# Altium footprint library PCB_Lib.PcbLib: 301 footprints (part 16 of 19)
Each footprint in its own frame and in the unit in brackets; x right, y up, seen from the top. Pads: shape width x height; smd on the part's side, far side on the other; paste and mask are expansions set on the pad; w line width, h text height; cw(c..) or ccw(c..) is an arc to the next point about the centre after c.
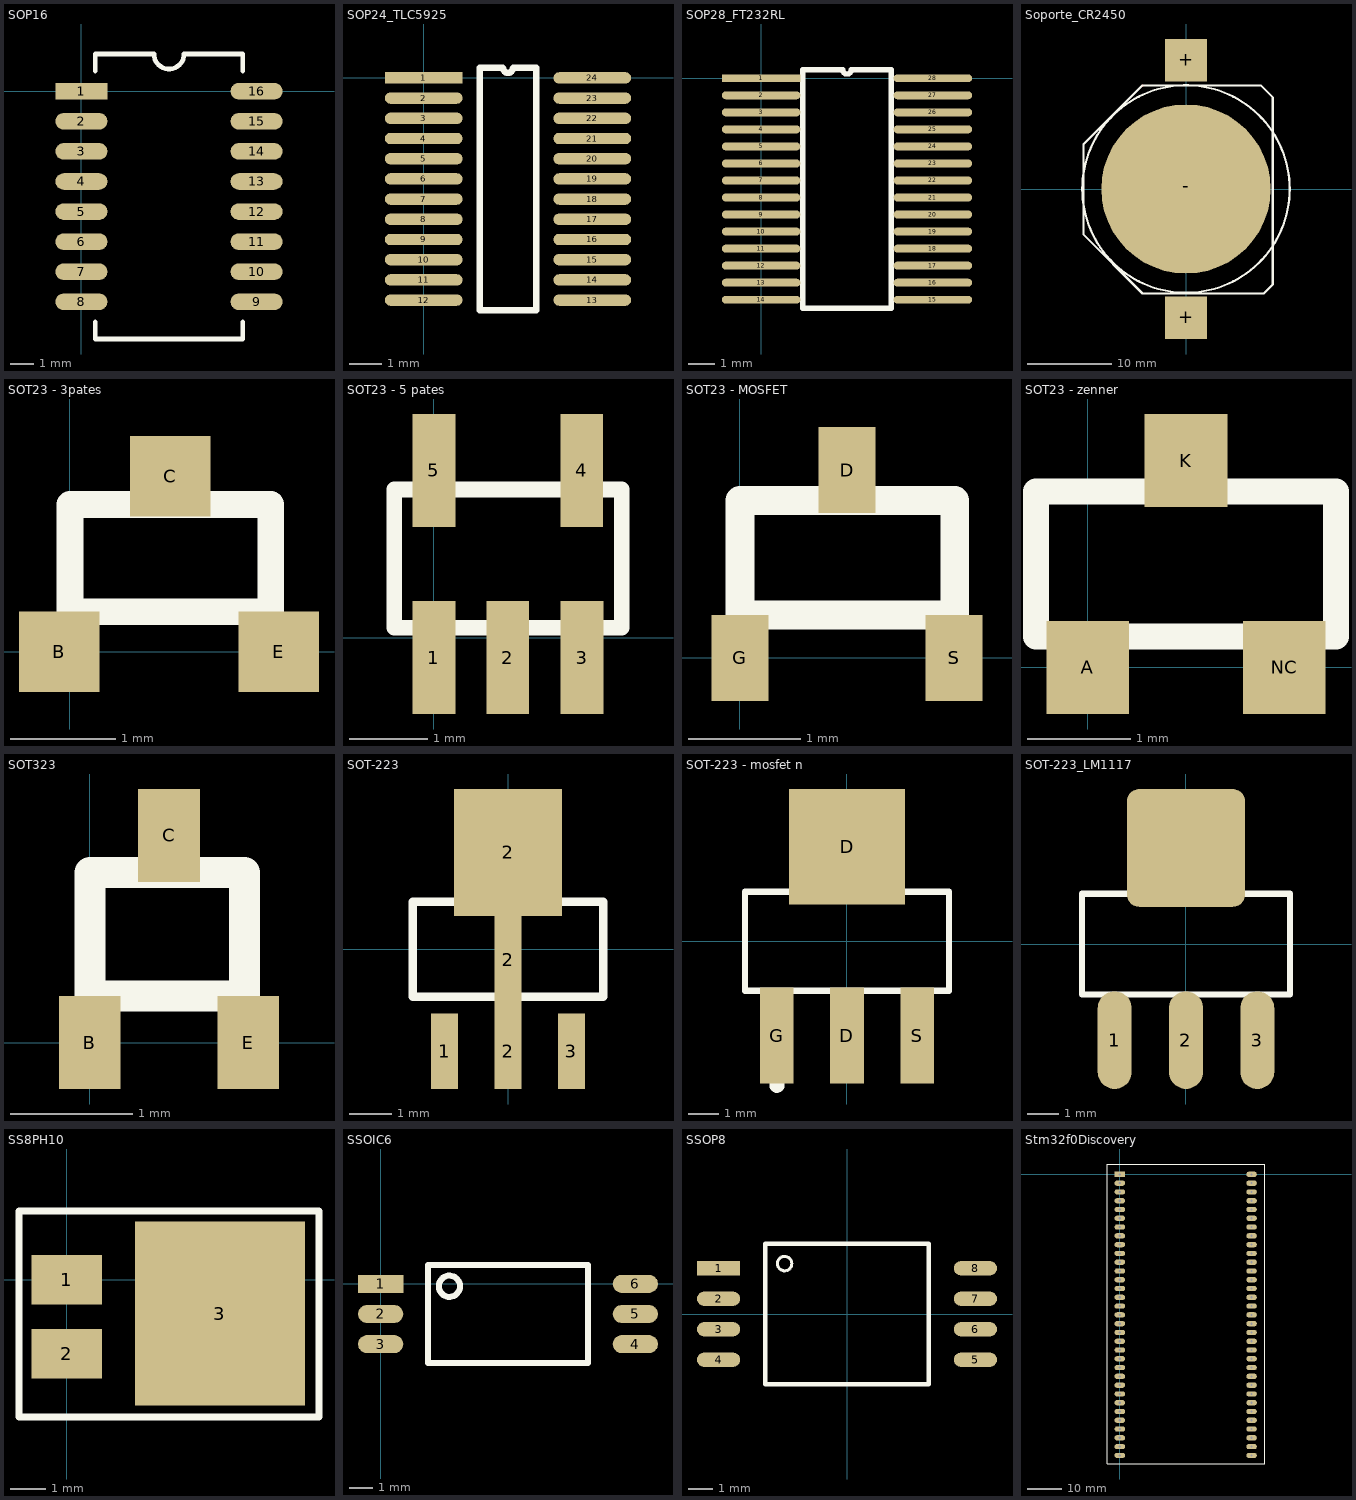
[diagram p15: the footprints below, top view; thin cyan lines are the x and y axes]

## SOP16 [mm]
pads (16):
  rect 2.2x0.7 smd: 1(0,0)
  oval 2.2x0.7 smd: 2(0,-1.27) 3(0,-2.54) 4(0,-3.81) 5(0,-5.08) 6(0,-6.35) 7(0,-7.62) 8(0,-8.89) 9(7.4,-8.89) 10(7.4,-7.62) 11(7.4,-6.35) 12(7.4,-5.08) 13(7.4,-3.81) 14(7.4,-2.54) 15(7.4,-1.27) 16(7.4,0)
Top Overlay:
  lines w0.2: 0.59,-9.74 0.59,-10.46 6.81,-10.46 6.81,-9.74 ; 0.59,0.85 0.59,1.57 3.065,1.57 ccw(c3.7,1.57) 4.335,1.57 6.81,1.57 6.81,0.85

## SOP24_TLC5925 [mm]
pads (24):
  rect 2.4x0.35 smd: 1(0,0)
  oval 2.4x0.35 smd: 2(0,-0.623) 3(0,-1.246) 4(0,-1.869) 5(0,-2.492) 6(0,-3.115) 7(0,-3.738) 8(0,-4.361) 9(0,-4.984) 10(0,-5.607) 11(0,-6.23) 12(0,-6.853) 13(5.2,-6.853) 14(5.2,-6.23) 15(5.2,-5.607) 16(5.2,-4.984) 17(5.2,-4.361) 18(5.2,-3.738) 19(5.2,-3.115) 20(5.2,-2.492) 21(5.2,-1.869) 22(5.2,-1.246) 23(5.2,-0.623) 24(5.2,0)
Top Overlay:
  lines w0.2: 1.735,-7.165 3.465,-7.165 3.465,0.312 2.756,0.312 cw(c2.6,0.312) 2.444,0.312 1.735,0.312 1.735,-7.165

## SOP28_FT232RL [mm]
pads (28):
  rect 3x0.3 smd: 1(0,0)
  oval 3x0.3 smd: 2(0,-0.65) 3(0,-1.3) 4(0,-1.95) 5(0,-2.6) 6(0,-3.25) 7(0,-3.9) 8(0,-4.55) 9(0,-5.2) 10(0,-5.85) 11(0,-6.5) 12(0,-7.15) 13(0,-7.8) 14(0,-8.45) 15(6.55,-8.45) 16(6.55,-7.8) 17(6.55,-7.15) 18(6.55,-6.5) 19(6.55,-5.85) 20(6.55,-5.2) 21(6.55,-4.55) 22(6.55,-3.9) 23(6.55,-3.25) 24(6.55,-2.6) 25(6.55,-1.95) 26(6.55,-1.3) 27(6.55,-0.65) 28(6.55,0)
Top Overlay:
  lines w0.2: 1.585,-8.775 4.965,-8.775 4.965,0.325 3.437,0.325 cw(c3.275,0.325) 3.113,0.325 1.585,0.325 1.585,-8.775

## Soporte_CR2450 [mm]
pads (3):
  rect 5x5 smd: +(0,-15.215) +(0,15.215)
  round 20 smd: -(0,0)
Top Layer:
  lines w0.254: -5.131,12.192 -5.131,12.243
Top Overlay:
  circle w0.254: c0,0 r12.25
  lines w0.254: -12.116,5.207 -12.116,-5.359 -5.131,-12.344 5.385,-12.344 9.169,-12.344 10.236,-11.278 10.236,-0.051 10.236,10.82 8.814,12.243 0.076,12.243 -5.131,12.243 -12.116,5.258

## SOT23 - 3pates [mil] "Transistor SMD"
pads (3):
  rect 30x30 smd: B(-4,0) C(37.4,65.62) E(78,0)
Top Overlay:
  lines w10: 0,15 35,15 75,15 75,55 0,55 0,15

## SOT23 - 5 pates [mm]
pads (5):
  rect 0.55x1.45 smd: 1(0,-0.254) 2(0.95,-0.254) 3(1.905,-0.254) 4(1.9,2.15) 5(0,2.15)
Top Overlay:
  lines w0.2: -0.508,0.127 -0.508,1.905 2.413,1.905 2.413,0.127 -0.508,0.127

## SOT23 - MOSFET [mil] "Transistor SMD"
pads (3):
  rect 20x30 smd: D(37.4,65.62) G(0,0) S(74.8,0)
Top Overlay:
  lines w10: 0,15 0,55 75,55 75,15 35,15 0,15

## SOT23 - zenner [mm] "Transistor SMD"
pads (3):
  rect 0.8x0.9 smd: A(0,0) K(0.95,2) NC(1.9,0)
Top Overlay:
  lines w0.254: -0.5,0.3 2.4,0.3 2.4,1.7 -0.5,1.7 -0.5,0.3

## SOT323 [mil] "SOT 23 más chico"
pads (3):
  rect 20x30 smd: B(0,0) C(25.59,66.93) E(51.18,0)
Top Overlay:
  lines w10: 0,15 35,15 50,15 50,35 50,55 0,55 0,15

## SOT-223 [mil] "SOT-223/SC-73; 4 Leads; Body 6.7 x 7.3 mm, inc. leads (LxW max)"
height 70.87
pads (5):
  rect 25x70 smd paste+0: 1(-59.06,-95)
  rect 25x70 smd: 2(0,-95) 3(59.06,-95)
  rect 25x100 smd: 2(0,-10)
  rect 100x118.11 smd: 2(0,90)
Top Overlay:
  lines w7.87: -88.58,-44.29 88.58,-44.29 88.58,44.29 -88.58,44.29 -88.58,-44.29

## SOT-223 - mosfet n [mm] "SOT-223/SC-73; 4 Leads; Body 6.7 x 7.3 mm, inc. leads (LxW max)"
height 1.8
pads (4):
  rect 1.1x3.15 smd: D(0,-3.1) G(-2.3,-3.1) S(2.3,-3.1)
  rect 3.8x3.8 smd: D(0,3.1)
Top Overlay:
  circle w0.25: c-2.3,-4.725 r0.125
  lines w0.2: -3.35,-1.625 -3.35,1.625 3.35,1.625 3.35,-1.625 -3.35,-1.625

## SOT-223_LM1117 [mm] "SOT-223/SC-73; 4 Leads; Body 6.7 x 7.3 mm, inc. leads (LxW max)"
height 1.8
pads (4):
  oval 1.1x3.15 smd: 1(-2.3,-3.1) 2(0,-3.1) 3(2.3,-3.1)
  rrect20% 3.8x3.8 smd: ""(0,3.1)
Top Overlay:
  lines w0.2: -3.35,-1.625 -3.35,1.625 3.35,1.625 3.35,-1.625 -3.35,-1.625

## SS8PH10 [mm]
pads (3):
  rect 2x1.4 smd: 1(0,0) 2(0,-2.08)
  rect 4.8x5.2 smd: 3(4.325,-0.95)
Top Overlay:
  lines w0.2: -1.35,-3.875 -1.35,1.95 7.125,1.95 7.125,-3.875 -1.35,-3.875

## SSOIC6 [mm] "Circuito de 6 patas SMD"
height 2.54
pads (6):
  rect 1.91x0.762 smd: 1(0,0)
  oval 1.91x0.762 smd: 2(0,-1.27) 3(0,-2.54) 4(10.74,-2.54) 5(10.74,-1.27) 6(10.74,0)
Top Overlay:
  circle w0.254: c2.9,-0.1 r0.447
  lines w0.254: 2,-3.34 8.74,-3.34 8.74,0.8 2,0.8 2,-3.34

## SSOP8 [mm]
pads (8):
  rect 1.8x0.6 smd: 1(-5.35,1.905)
  oval 1.8x0.6 smd: 2(-5.35,0.635) 3(-5.35,-0.635) 4(-5.35,-1.905) 5(5.35,-1.905) 6(5.35,-0.635) 7(5.35,0.635) 8(5.35,1.905)
Top Overlay:
  circle w0.127: c-2.6,2.1 r0.3
  lines w0.2: -3.404,-2.925 -3.404,2.925 3.404,2.925 3.404,-2.925 -3.404,-2.925

## Stm32f0Discovery [mil]
pads (66):
  rect 120x60 hole 25: 1(0,0)
  oval 120x60 hole 25: 2(0,-100) 3(0,-200) 4(0,-300) 5(0,-400) 6(0,-500) 7(0,-600) 8(0,-700) 9(0,-800) 10(0,-900) 11(0,-1000) 12(0,-1100) 13(0,-1200) 14(0,-1300) 15(0,-1400) 16(0,-1500) 17(0,-1600) 18(0,-1700) 19(0,-1800) 20(0,-1900) 21(0,-2000) 22(0,-2100) 23(0,-2200) 24(0,-2300) 25(0,-2400) 26(0,-2500) 27(0,-2600) 28(0,-2700) 29(0,-2800) 30(0,-2900) 31(0,-3000) 32(0,-3100) 33(0,-3200) 34(1500,-3200) 35(1500,-3100) 36(1500,-3000) 37(1500,-2900) 38(1500,-2800) 39(1500,-2700) 40(1500,-2600) 41(1500,-2500) 42(1500,-2400) 43(1500,-2300) 44(1500,-2200) 45(1500,-2100) 46(1500,-2000) 47(1500,-1900) 48(1500,-1800) 49(1500,-1700) 50(1500,-1600) 51(1500,-1500) 52(1500,-1400) 53(1500,-1300) 54(1500,-1200) 55(1500,-1100) 56(1500,-1000) 57(1500,-900) 58(1500,-800) 59(1500,-700) 60(1500,-600) 61(1500,-500) 62(1500,-400) 63(1500,-300) 64(1500,-200) 65(1500,-100) 66(1500,0)
Top Overlay:
  lines w10: -144,-3298 -144,118 1651,118 1649.98,-3298 -144,-3298